# EAGLE library part SNES_CON_FRONT (library snes_con)
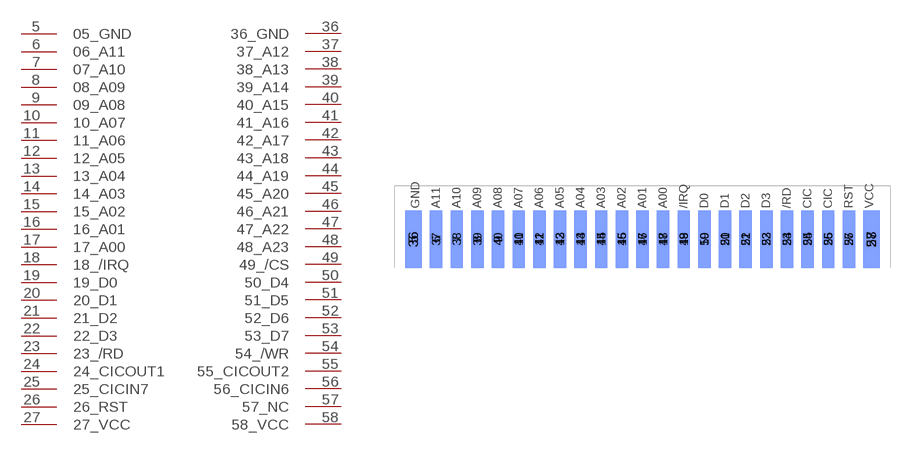
[diagram p0: symbol with the pads of SNES_CON; footprint SNES_CON]

Designator prefix -

## SNES_CON_FRONT  [SNES_CON]
5  05_GND
6  06_A11
7  07_A10
8  08_A09
9  09_A08
10  10_A07
11  11_A06
12  12_A05
13  13_A04
14  14_A03
15  15_A02
16  16_A01
17  17_A00
18  18_/IRQ
19  19_D0
20  20_D1
21  21_D2
22  22_D3
23  23_/RD
24  24_CICOUT1
25  25_CICIN7
26  26_RST
27  27_VCC
36  36_GND
37  37_A12
38  38_A13
39  39_A14
40  40_A15
41  41_A16
42  42_A17
43  43_A18
44  44_A19
45  45_A20
46  46_A21
47  47_A22
48  48_A23
49  49_/CS
50  50_D4
51  51_D5
52  52_D6
53  53_D7
54  54_/WR
55  55_CICOUT2
56  56_CICIN6
57  57_NC
58  58_VCC

## Footprint SNES_CON (pad centres in mm)
Steckverbindung fuer Super Nintendo Cartridges
smd 2 x 7: 5 2.25,3.5; 27 57.75,3.5
smd 1.5 x 7: 6 5,3.5; 7 7.5,3.5; 8 10,3.5; 9 12.5,3.5; 10 15,3.5; 11 17.5,3.5; 12 20,3.5; 13 22.5,3.5; 14 25,3.5; 15 27.5,3.5; 16 30,3.5; 17 32.5,3.5; 18 35,3.5; 19 37.5,3.5; 20 40,3.5; 21 42.5,3.5; 22 45,3.5; 23 47.5,3.5; 24 50,3.5; 25 52.5,3.5; 26 55,3.5
smd 2 x 7 bottom: 36 2.25,3.5; 58 57.75,3.5
smd 1.5 x 7 bottom: 37 5,3.5; 38 7.5,3.5; 39 10,3.5; 40 12.5,3.5; 41 15,3.5; 42 17.5,3.5; 43 20,3.5; 44 22.5,3.5; 45 25,3.5; 46 27.5,3.5; 47 30,3.5; 48 32.5,3.5; 49 35,3.5; 50 37.5,3.5; 51 40,3.5; 52 42.5,3.5; 53 45,3.5; 54 47.5,3.5; 55 50,3.5; 56 52.5,3.5; 57 55,3.5